# Altium schematic symbol library LM604X0.SchLib: 1 symbol
Pins are listed as number, name and electrical type; pins without a type are passive.

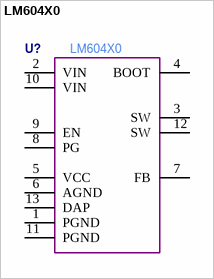
[diagram p0: symbol LM604X0]

## LM604X0
designator U?  Manufacturer Part Number: LM604X0  (hidden comment: *)
pins: 1 PGND, 2 VIN, 3 SW, 4 BOOT, 5 VCC, 6 AGND, 7 FB, 8 PG, 9 EN, 10 VIN, 11 PGND, 12 SW, 13 DAP